# Altium schematic symbol library PCA9306TDCURQ1.SchLib: 1 symbol
Pins are listed as number, name and electrical type; pins without a type are passive.

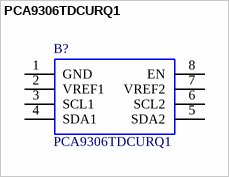
[diagram p0: symbol PCA9306TDCURQ1]

## PCA9306TDCURQ1
designator B?
Automotive Dual Bidirectional I2C Bus and SMBus Voltage-Level Translator; Manufacturer_Name: Texas Instruments; Geometry.Height: 0.9mm; Manufacturer_Part_Number: PCA9306TDCURQ1; RS Part Number: *; RS Price/Stock: *; Mouser Part Number: 595-PCA9306TDCURQ1; Mouser Price/Stock: https://www.mouser.com/Search/Refine.aspx?Keyword=595-PCA9306TDCURQ1; Datasheet Link: http://www.ti.com/lit/gpn/pca9306-q1
footprint SOP50P310X90-8N
pins: 1 GND, 2 VREF1 (power), 3 SCL1, 4 SDA1, 5 SDA2, 6 SCL2, 7 VREF2 (power), 8 EN